# Altium integrated library ST Comm Subscriber Line Circuit.IntLib: 10 symbols
Pins are listed as number, name and electrical type; pins without a type are passive.

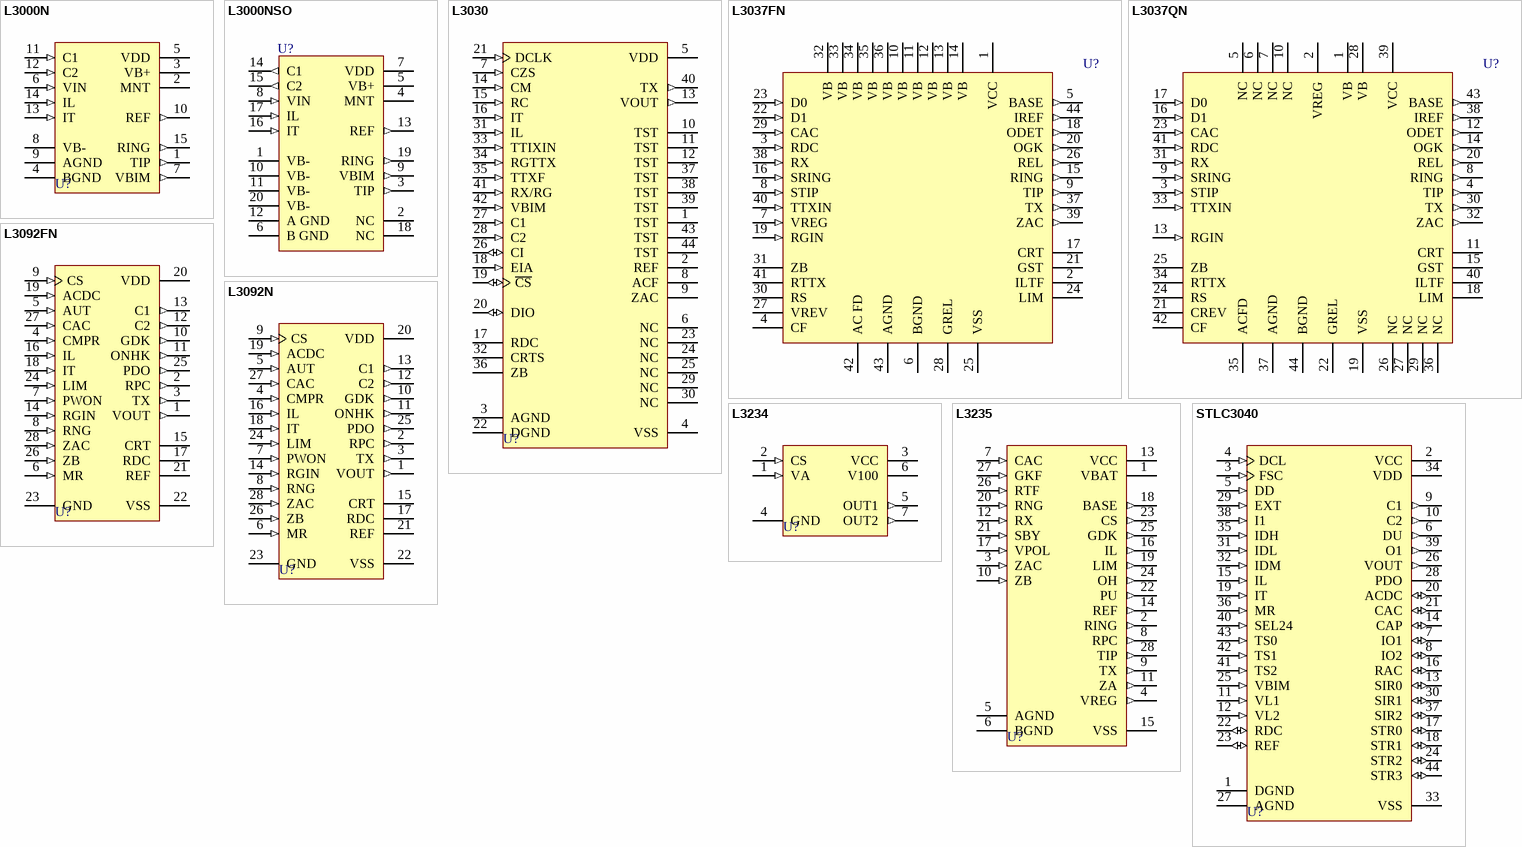
[diagram p0: symbols L3000N to STLC3040]

## L3000N
designator U?
Subscriber Line Interface Kit; Published: 24-Aug-2001; LatestRevisionDate: 17-Jul-2002; LatestRevisionNote: Re-released for DXP Platform.; DatasheetDocument: Jan-1995; PackageReference: FLEXIWATT; Publisher: Altium Limited; ComponentLink1Description: Manufacturer Link; ComponentLink1URL: http://www.st.com/
footprint FLEXIWATT (SIP; 15 Leads; Body 29 x 4.6 mm (LxW typ); Pitch 1.91 mm)
pins: 1 TIP (out), 2 MNT (power), 3 VB+ (power), 4 BGND (power), 5 VDD (power), 6 VIN (in), 7 VBIM (out), 8 VB- (power), 9 AGND (power), 10 REF (out), 11 C1 (in), 12 C2 (in), 13 IT (in), 14 IL (in), 15 RING (out)

## L3000NSO
designator U?
Subscriber Line Interface Kit; Published: 24-Aug-2001; LatestRevisionDate: 17-Jul-2002; LatestRevisionNote: Re-released for DXP Platform.; DatasheetDocument: Jan-1995; PackageDocument: May-1998; PackageReference: PowerSO20; Publisher: Altium Limited; Code_JEDEC: MO-166; ComponentLink1Description: Manufacturer Link; ComponentLink1URL: http://www.st.com/
footprint PowerSO20 (Small Outline; 20 Leads; Body Width 11 mm; Pitch 1.27 mm)
pins: 1 VB- (power), 2 NC, 3 TIP (out), 4 MNT (power), 5 VB+ (power), 6 B GND (power), 7 VDD (power), 8 VIN (in), 9 VBIM (out), 10 VB- (power), 11 VB- (power), 12 A GND (power), 13 REF (out), 14 C1 (out), 15 C2 (out), 16 IT (in), 17 IL (in), 18 NC, 19 RING (out), 20 VB- (power)

## L3030
designator U?
Subscriber Line Interface Kit; Published: 24-Aug-2001; LatestRevisionDate: 6-Jun-2005; LatestRevisionNote: Stylized 3D Model Added.; DatasheetDocument: Jan-1995; PackageDocument: Jun-1998; PackageReference: PLCC44; Publisher: Altium Limited; Code_IPC: PLCC-44; ComponentLink1Description: Manufacturer Link; ComponentLink1URL: http://www.st.com/
footprint PLCC44 (Leaded Chip Carrier; 44 Leads; Body 16.5 x 16.5 mm)
3D model L3030-PLCC44 (Leaded Chip Carrier; 44 Leads; Body 16.5 x 16.5 mm)
pins: 1 TST, 2 REF, 3 AGND (power), 4 VSS (power), 5 VDD (power), 6 NC, 7 CZS (in), 8 ACF, 9 ZAC, 10 TST, 11 TST, 12 TST, 13 VOUT (out), 14 CM (in), 15 RC (in), 16 IT (in), 17 RDC, 18 EIA (in), 19 ~{CS} (io), 20 DIO (io), 21 DCLK (in), 22 DGND (power), 23 NC, 24 NC, 25 NC, 26 CI (io), 27 C1 (in), 28 C2 (in), 29 NC, 30 NC, 31 IL (in), 32 CRTS, 33 TTIXIN (in), 34 RGTTX (in), 35 TTXF (in), 36 ZB, 37 TST, 38 TST, 39 TST, 40 TX (out), 41 RX/RG (in), 42 VBIM (in), 43 TST, 44 TST

## L3037FN
designator U?
Subscriber Line Interface Circuit; Published: 24-Aug-2001; LatestRevisionDate: 6-Jun-2005; LatestRevisionNote: Stylized 3D Model Added.; DatasheetDocument: Dec-1997; PackageDocument: Feb-1997; PackageReference: PLCC44A; Publisher: Altium Limited; Code_IPC: PLCC-44; ComponentLink1Description: Manufacturer Link; ComponentLink1URL: http://www.st.com/
footprint PLCC44A (Leaded Chip Carrier; 44 Leads; Body 16.5 x 16.5 mm)
3D model L3037-PLCC44 (Leaded Chip Carrier; 44 Leads; Body 16.5 x 16.5 mm)
pins: 1 VCC (power), 2 ILTF, 3 RDC (in), 4 CF, 5 BASE (out), 6 BGND (power), 7 VREG (in), 8 STIP (in), 9 TIP (out), 10 VB (power), 11 VB (power), 12 VB (power), 13 VB (power), 14 VB (power), 15 RING (out), 16 SRING (in), 17 CRT, 18 ODET (out), 19 RGIN (in), 20 OGK (out), 21 GST, 22 D1 (in), 23 D0 (in), 24 LIM, 25 VSS (power), 26 REL (out), 27 VREV, 28 GREL (power), 29 CAC (in), 30 RS, 31 ZB, 32 VB (power), 33 VB (power), 34 VB (power), 35 VB (power), 36 VB (power), 37 TX (out), 38 RX (in), 39 ZAC (out), 40 TTXIN (in), 41 RTTX, 42 AC FD (power), 43 AGND (power), 44 IREF (out)

## L3037QN
designator U?
Subscriber Line Interface Circuit; Published: 24-Aug-2001; LatestRevisionDate: 6-Jun-2005; LatestRevisionNote: Stylized 3D Model Added.; DatasheetDocument: Dec-1997; PackageDocument: Nov-1999; PackageReference: PQFP44A; Publisher: Altium Limited; Code_JEDEC: MS-022-AB; Code_IPC: QFP10X10-44; ComponentLink1Description: Manufacturer Link; ComponentLink1URL: http://www.st.com/
footprint PQFP44A (QFP; 44 Leads; Body 10 x 10 mm; Pitch 0.8 mm)
3D model L3037-PQFP44 (QFP; 44 Leads; Body 10 x 10 mm; Pitch 0.8 mm)
pins: 1 VB (power), 2 VREG (power), 3 STIP (in), 4 TIP (out), 5 NC, 6 NC, 7 NC, 8 RING (out), 9 SRING (in), 10 NC, 11 CRT, 12 ODET (out), 13 RGIN (in), 14 OGK (out), 15 GST, 16 D1 (in), 17 D0 (in), 18 LIM, 19 VSS (power), 20 REL (out), 21 CREV, 22 GREL (power), 23 CAC (in), 24 RS, 25 ZB, 26 NC, 27 NC, 28 VB (power), 29 NC, 30 TX (out), 31 RX (in), 32 ZAC (out), 33 TTXIN (in), 34 RTTX, 35 ACFD (power), 36 NC, 37 AGND (power), 38 IREF (out), 39 VCC (power), 40 ILTF, 41 RDC (in), 42 CF, 43 BASE (out), 44 BGND (power)

## L3092FN
designator U?
SLIC Kit Optimized for Applications with both First and Second Generation Combos; Published: 24-Aug-2001; LatestRevisionDate: 6-Jun-2005; LatestRevisionNote: Stylized 3D Model Added.; DatasheetDocument: Dec-1997; PackageDocument: Jan-1995; PackageReference: PLCC28; Publisher: Altium Limited; Code_IPC: PLCC-28; ComponentLink1Description: Manufacturer Link; ComponentLink1URL: http://www.st.com/
footprint PLCC28 (Leaded Chip Carrier; 28 Leads; Body 11.5 x 11.5 mm)
3D model L3092-PLCC28 (Leaded Chip Carrier; 28 Leads; Body 11.5 x 11.5 mm)
pins: 1 VOUT (out), 2 RPC (out), 3 TX (out), 4 CMPR (in), 5 AUT (in), 6 MR (in), 7 PWON (in), 8 RNG (in), 9 CS (in), 10 GDK (out), 11 ONHK (out), 12 C2 (out), 13 C1 (out), 14 RGIN (in), 15 CRT, 16 IL (in), 17 RDC, 18 IT (in), 19 ACDC (in), 20 VDD (power), 21 REF, 22 VSS (power), 23 GND (power), 24 LIM (in), 25 PDO (out), 26 ZB (in), 27 CAC (in), 28 ZAC (in)

## L3092N
designator U?
SLIC Kit Optimized for Applications with both First and Second Generation Combos; Published: 24-Aug-2001; LatestRevisionDate: 6-Jun-2005; LatestRevisionNote: Stylized 3D Model Added.; DatasheetDocument: Dec-1997; PackageDocument: Jan-2003; PackageReference: PDIP28; Publisher: Altium Limited; ComponentLink1Description: Manufacturer Link; ComponentLink1URL: http://www.st.com/
footprint PDIP28 (DIP; 28 Leads; Row Spacing 15.24 mm; Pitch 2.54 mm)
3D model PDIP28 (DIP; 28 Leads; Row Spacing 15.24 mm; Pitch 2.54 mm)
pins: 1 VOUT (out), 2 RPC (out), 3 TX (out), 4 CMPR (in), 5 AUT (in), 6 MR (in), 7 PWON (in), 8 RNG (in), 9 CS (in), 10 GDK (out), 11 ONHK (out), 12 C2 (out), 13 C1 (out), 14 RGIN (in), 15 CRT, 16 IL (in), 17 RDC, 18 IT (in), 19 ACDC (in), 20 VDD (power), 21 REF, 22 VSS (power), 23 GND (power), 24 LIM (in), 25 PDO (out), 26 ZB (in), 27 CAC (in), 28 ZAC (in)

## L3234
designator U?
Highly Integrated SLIC Kit Targeted to PABX and Key System Applications; Published: 24-Aug-2001; LatestRevisionDate: 17-Jul-2002; LatestRevisionNote: Re-released for DXP Platform.; DatasheetDocument: Jan-1995; PackageDocument: Jan-1995; PackageReference: HEPTAWATT7; Publisher: Altium Limited; ComponentLink1Description: Manufacturer Link; ComponentLink1URL: http://www.st.com/; ComponentLink2Description: Datasheet; ComponentLink2URL: http://www.st.com/stonline/products/literature/ds/1541/l3234.pdf
footprint HEPTAWATT7 (TO, Thru-Hole, Vertical, Heatsink Mounted; 7 Bent Staggered Leads; Pitch 1.27 mm)
pins: 1 VA (in), 2 CS (in), 3 VCC (power), 4 GND (power), 5 OUT1 (out), 6 V100 (power), 7 OUT2 (out)

## L3235
designator U?
Highly Integrated SLIC Kit Targeted to PABX and Key System Applications; Published: 24-Aug-2001; LatestRevisionDate: 6-Jun-2005; LatestRevisionNote: Stylized 3D Model Added.; DatasheetDocument: Jan-1995; PackageDocument: Jan-1995; PackageReference: PLCC28; Publisher: Altium Limited; Code_IPC: PLCC-28; ComponentLink1Description: Manufacturer Link; ComponentLink1URL: http://www.st.com/; ComponentLink2Description: Datasheet; ComponentLink2URL: http://www.st.com/stonline/products/literature/ds/1541/l3234.pdf
footprint PLCC28 (Leaded Chip Carrier; 28 Leads; Body 11.5 x 11.5 mm)
3D model L3235-PLCC28 (Leaded Chip Carrier; 28 Leads; Body 11.5 x 11.5 mm)
pins: 1 VBAT (power), 2 RING (out), 3 ZAC (in), 4 VREG (out), 5 AGND (power), 6 BGND (power), 7 CAC (in), 8 RPC (out), 9 TX (out), 10 ZB (in), 11 ZA (out), 12 RX (in), 13 VCC (power), 14 REF (out), 15 VSS (power), 16 IL (out), 17 VPOL (in), 18 BASE (out), 19 LIM (out), 20 RNG (in), 21 SBY (in), 22 PU (out), 23 CS (out), 24 OH (out), 25 GDK (out), 26 RTF (in), 27 GKF (in), 28 TIP (out)

## STLC3040
designator U?
Third Generation Subscriber Line Interface; Published: 24-Aug-2001; LatestRevisionDate: 6-Jun-2005; LatestRevisionNote: Stylized 3D Model Added.; DatasheetDocument: Jan-1995; PackageDocument: Feb-1997; PackageReference: PLCC44A; Publisher: Altium Limited; Code_IPC: PLCC-44; ComponentLink1Description: Manufacturer Link; ComponentLink1URL: http://www.st.com/
footprint PLCC44A (Leaded Chip Carrier; 44 Leads; Body 16.5 x 16.5 mm)
3D model STLC3040-PLCC44 (Leaded Chip Carrier; 44 Leads; Body 16.5 x 16.5 mm)
pins: 1 DGND (power), 2 VCC (power), 3 FSC (in), 4 DCL (in), 5 DD (in), 6 DU (out), 7 IO1 (io), 8 IO2 (io), 9 C1 (out), 10 C2 (out), 11 VL1 (in), 12 VL2 (in), 13 SIR0 (io), 14 CAP (io), 15 IL (in), 16 RAC (io), 17 STR0 (io), 18 STR1 (io), 19 IT (in), 20 ACDC (io), 21 CAC (io), 22 RDC (io), 23 REF (io), 24 STR2 (io), 25 VBIM (in), 26 VOUT (out), 27 AGND (power), 28 PDO (hiz), 29 EXT (in), 30 SIR1 (io), 31 IDL (in), 32 IDM (in), 33 VSS (power), 34 VDD (power), 35 IDH (in), 36 MR (in), 37 SIR2 (io), 38 I1 (in), 39 O1 (out), 40 SEL24 (in), 41 TS2 (in), 42 TS1 (in), 43 TS0 (in), 44 STR3 (io)